# Altium footprint library PCB - POWER INDUCTORS - WURTH WE-LQS 3015.PcbLib: 1 footprints
Each footprint in its own frame and in the unit in brackets; x right, y up, seen from the top. Pads: shape width x height; smd on the part's side, far side on the other; paste and mask are expansions set on the pad; w line width, h text height; cw(c..) or ccw(c..) is an arc to the next point about the centre after c.
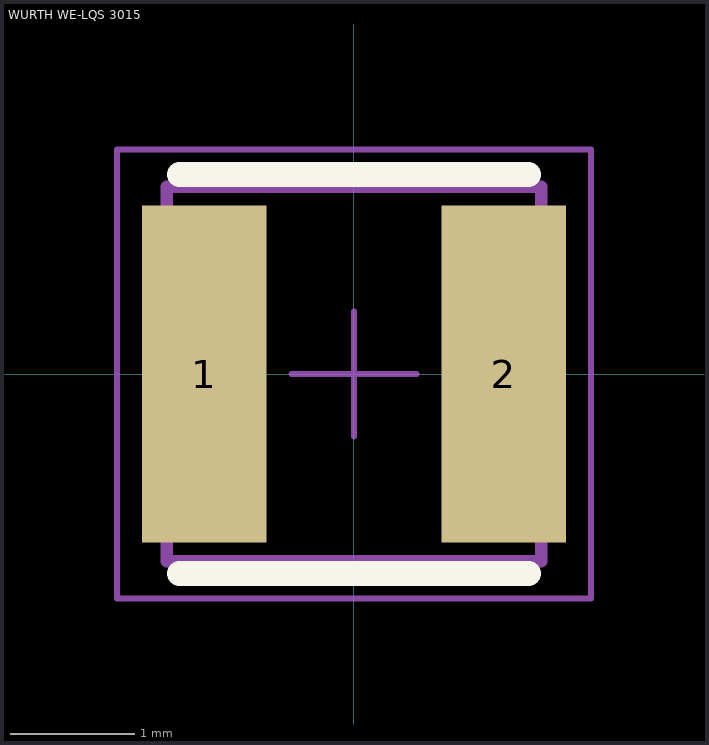
[diagram p0: the footprint, top view; thin cyan lines are the x and y axes]

## WURTH WE-LQS 3015 [mm] "SMD Power Inductor, 2-Leads, body 3x3mm"
height 1.5
pads (2):
  rect 1x2.7 smd: 1(-1.2,0) 2(1.2,0)
Top Overlay:
  lines w0.2: -1.4,-1.6 1.4,-1.6 ; -1.4,1.6 1.4,1.6
Top Assembly:
  lines w0.05: -0.5,0 0.5,0 ; 0,-0.5 0,0.5
Top Component Outline:
  lines w0.1: -1.5,-1.5 1.5,-1.5 ; -1.5,-1.5 -1.5,1.5 ; -1.5,-1.5 1.5,-1.5 ; -1.5,-1.5 -1.5,1.5 ; -1.5,1.5 1.5,1.5 ; -1.5,1.5 1.5,1.5 ; 1.5,-1.5 1.5,1.5 ; 1.5,-1.5 1.5,1.5
Top Courtyard:
  lines w0.05: -1.9,-1.8 -1.9,1.8 1.9,1.8 1.9,-1.8 -1.9,-1.8
3D body "LQS_3015.stp": height 1.5, standoff 0, extent -1.5,-1.5 1.5,1.5